# Altium schematic symbol library BC847.SchLib: 1 symbol
Pins are listed as number, name and electrical type; pins without a type are passive.

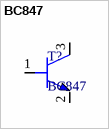
[diagram p0: symbol BC847]

## BC847
designator T?
NPN transistor 45 V, 100 mA, 100 MHz; Потребление, Вт: 0; Назначение: NPN transistor 45 V, 100 mA, 100 MHz; Наименование: BC847; ComponentLink1Description: Datasheet; ComponentLink1URL: https://static.chipdip.ru/lib/097/DOC013097818.pdf
footprint SOT-23
pins: 1 BASE, 2 EMITTER, 3 COLLECTOR